# Altium footprint library A6模组_AD封装.PcbLib: 1 footprints
Each footprint in its own frame and in the unit in brackets; x right, y up, seen from the top. Pads: shape width x height; smd on the part's side, far side on the other; paste and mask are expansions set on the pad; w line width, h text height; cw(c..) or ccw(c..) is an arc to the next point about the centre after c.
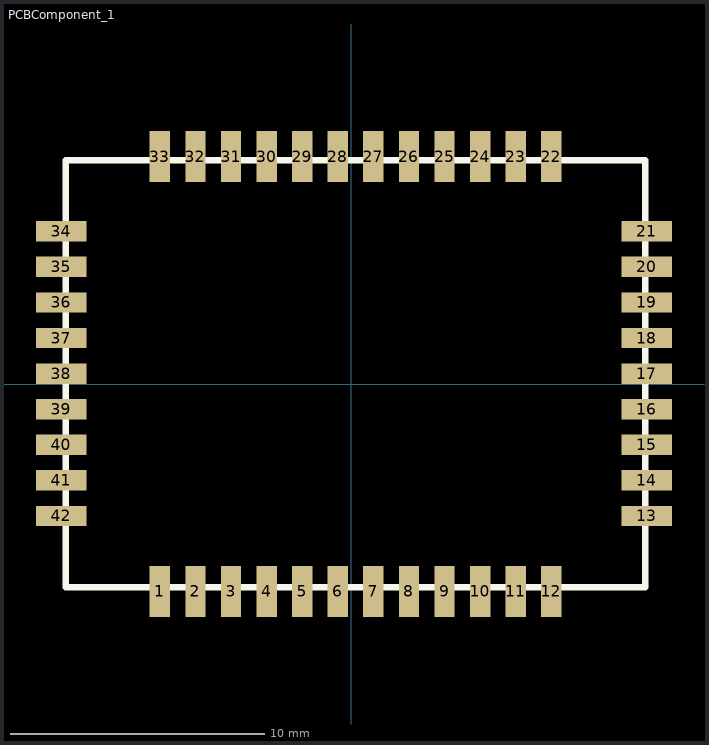
[diagram p0: the footprint, top view; thin cyan lines are the x and y axes]

## PCBComponent_1 [mm]
pads (42):
  rect 0.8x2 smd: 1(-7.532,-8.156) 2(-6.132,-8.156) 3(-4.732,-8.156) 4(-3.332,-8.156) 5(-1.932,-8.156) 6(-0.532,-8.156) 7(0.868,-8.156) 8(2.268,-8.156) 9(3.668,-8.156) 10(5.068,-8.156) 11(6.468,-8.156) 12(7.868,-8.156) 22(7.868,8.948) 23(6.468,8.948) 24(5.068,8.948) 25(3.668,8.948) 26(2.268,8.948) 27(0.868,8.948) 28(-0.532,8.948) 29(-1.932,8.948) 30(-3.332,8.948) 31(-4.732,8.948) 32(-6.132,8.948) 33(-7.532,8.948)
  rect 2x0.8 smd: 13(11.626,-5.189) 14(11.626,-3.789) 15(11.626,-2.389) 16(11.626,-0.989) 17(11.626,0.411) 18(11.626,1.811) 19(11.626,3.211) 20(11.626,4.611) 21(11.626,6.011) 34(-11.412,6.011) 35(-11.412,4.611) 36(-11.412,3.211) 37(-11.412,1.811) 38(-11.412,0.411) 39(-11.412,-0.989) 40(-11.412,-2.389) 41(-11.412,-3.789) 42(-11.412,-5.189)
Top Overlay:
  lines w0.254: -11.243,-8.001 11.557,-8.001 11.557,8.799 -11.243,8.799 -11.243,-8.001